# EAGLE library part HM-11 (library Seed-HM11)
Bluetooth Specification V4.0 BLE
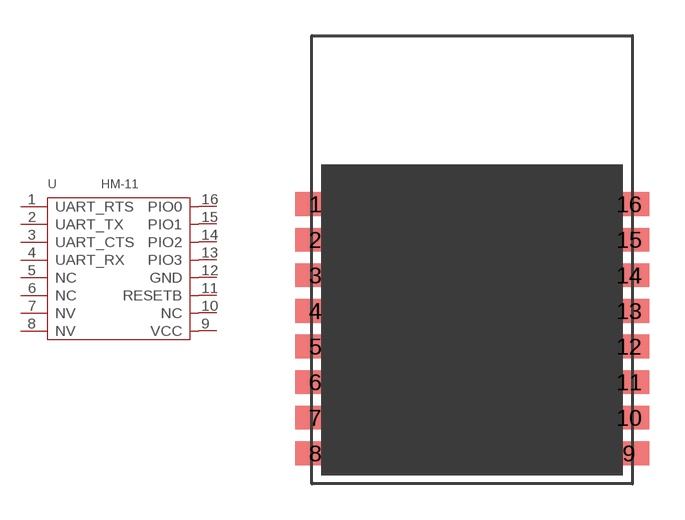
[diagram p0: symbol with the pads of 16P-18.5X13.5X0.8; footprint 16P-18.5X13.5X0.8]

Designator prefix U

## HM-11  [16P-18.5X13.5X0.8]
1  UART_RTS
2  UART_TX
3  UART_CTS
4  UART_RX
5  NC
6  NC
7  NV
8  NV
9  VCC
10  NC
11  RESETB
12  GND
13  PIO3
14  PIO2
15  PIO1
16  PIO0

## Footprint 16P-18.5X13.5X0.8 (pad centres in mm)
smd 1.7 x 1: 1 -6.6,2.15; 2 -6.6,0.65; 3 -6.6,-0.85; 4 -6.6,-2.35; 5 -6.6,-3.85; 6 -6.6,-5.35; 7 -6.6,-6.85; 8 -6.6,-8.35; 9 6.6,-8.35; 10 6.6,-6.85; 11 6.6,-5.35; 12 6.6,-3.85; 13 6.6,-2.35; 14 6.6,-0.85; 15 6.6,0.65; 16 6.6,2.15